# Altium schematic symbol library SCH - POWER - LINEAR VREG - TI LP5951_DCK_5.SchLib: 1 symbol
Pins are listed as number, name and electrical type; pins without a type are passive.

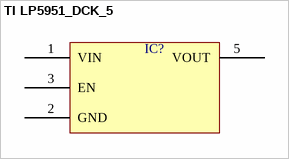
[diagram p0: symbol TI LP5951_DCK_5]

## TI LP5951_DCK_5
designator IC?  (value not drawn)
pins: 1 VIN, 2 GND, 3 EN, 5 VOUT